# Altium footprint library 0603_Cap.PcbLib: 1 footprints
Each footprint in its own frame and in the unit in brackets; x right, y up, seen from the top. Pads: shape width x height; smd on the part's side, far side on the other; paste and mask are expansions set on the pad; w line width, h text height; cw(c..) or ccw(c..) is an arc to the next point about the centre after c.
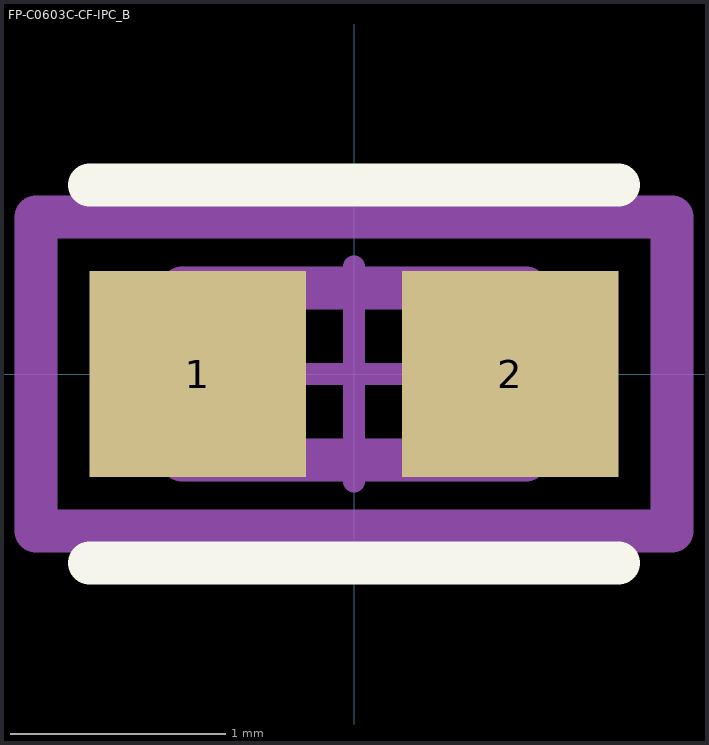
[diagram p0: the footprint, top view; thin cyan lines are the x and y axes]

## FP-C0603C-CF-IPC_B [mm]
pads (2):
  rect 1.007x0.958 smd paste+0 mask+0: 1(-0.726,0) 2(0.726,0)
Top Overlay:
  lines w0.2: -1.229,-0.879 1.229,-0.879 ; -1.229,0.879 1.229,0.879
Top Assembly:
  lines w0.2: -1.479,-0.729 -1.479,0.729 1.479,0.729 1.479,-0.729 -1.479,-0.729
  text ".Designator" at 0,0.188 h1
Top 3D Body:
  lines w0.2: -0.8,-0.4 -0.8,0.4 0.8,0.4 0.8,-0.4 -0.8,-0.4
Top Courtyard:
  lines w0.2: -1.479,-0.729 -1.479,0.729 1.479,0.729 1.479,-0.729 -1.479,-0.729
Top Component Center:
  lines w0.1: -0.5,0 0.5,0 ; 0,-0.5 0,0.5
3D body "Cap_KEMET_C0603C272M5JACTU_eec.STEP": height 0.25, standoff 0, extent -1.479,-0.729 1.479,0.729